# EAGLE library part PH_B8B-PH (library CASE-JST)
JST PH Connector, through hole, 8 pin, top entry Description: JST PH connector with 2.0 mm pitch, through hole version, 8 pin, top entry. Links: Datasheet <http://www.jst-mfg.com/product/pdf/eng/ePH.pdf>
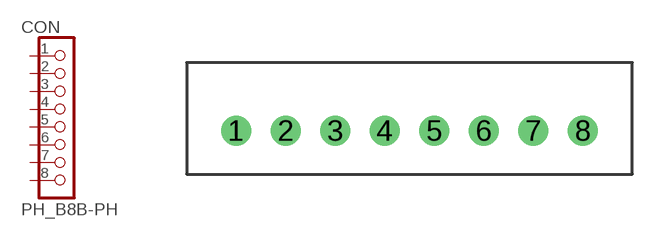
[diagram p11: symbol with the pads of B8B-PH; footprint B8B-PH]

Designator prefix CON

## PH_B8B-PH  [B8B-PH]
1  1  pas
2  2  pas
3  3  pas
4  4  pas
5  5  pas
6  6  pas
7  7  pas
8  8  pas

## Footprint B8B-PH (pad centres in mm)
JST B8B-PH Datasheet <http://www.jst-mfg.com/product/pdf/eng/ePH.pdf>
drill 0.7: 1 -7,0; 2 -5,0; 3 -3,0; 4 -1,0; 5 1,0; 6 3,0; 7 5,0; 8 7,0